# Altium schematic symbol library RT8509A.SchLib: 1 symbol
Pins are listed as number, name and electrical type; pins without a type are passive.

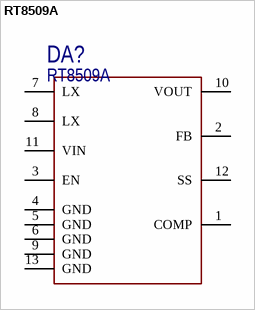
[diagram p0: symbol RT8509A]

## RT8509A
designator DA?
4.5A Step-Up DC/DC Converter
pins: 1 COMP, 2 FB, 3 EN, 4 GND, 5 GND, 6 GND, 7 LX, 8 LX, 9 GND, 10 VOUT, 11 VIN, 12 SS, 13 GND